# Altium schematic symbol library VS1003.SchLib: 1 symbol
Pins are listed as number, name and electrical type; pins without a type are passive.

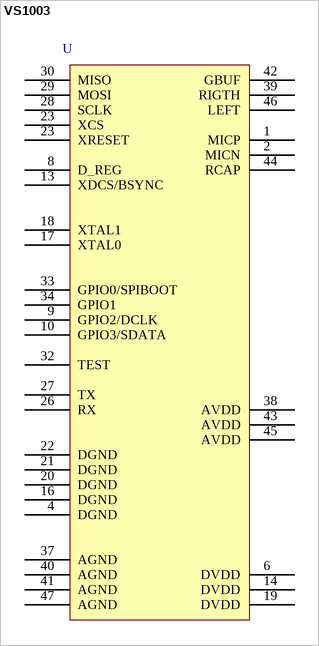
[diagram p0: symbol VS1003]

## VS1003
designator U  value VS1003  (hidden comment: *)
footprint LQFP-48
pins: 1 MICP, 2 MICN, 4 DGND, 6 DVDD, 8 D_REG, 9 GPIO2/DCLK, 10 GPIO3/SDATA, 13 XDCS/BSYNC, 14 DVDD, 16 DGND, 17 XTAL0, 18 XTAL1, 19 DVDD, 20 DGND, 21 DGND, 22 DGND, 23 XCS, 23 XRESET, 26 RX, 27 TX, 28 SCLK, 29 MOSI, 30 MISO, 32 TEST, 33 GPIO0/SPIBOOT, 34 GPIO1, 37 AGND, 38 AVDD, 39 RIGTH, 40 AGND, 41 AGND, 42 GBUF, 43 AVDD, 44 RCAP, 45 AVDD, 46 LEFT, 47 AGND